# Altium schematic symbol library MTHP126MIL.SchLib: 1 symbol
Pins are listed as number, name and electrical type; pins without a type are passive.

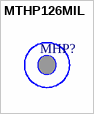
[diagram p0: symbol MTHP126MIL]

## MTHP126MIL
designator MHP?, comment Mounting Hole Plated 126mil with 300mil Standoff  (value not drawn)
Plated Mounting Hole with 126mil Diameter Hole and 300mil Diameter for Standoff
footprint MTHP126MIL (Mounting Hole Plated 126mil with 300mil Standoff)